# Altium schematic symbol library XFR,Flyback,COILCRAFT_GA3460-BL.SchLib: 1 symbol
Pins are listed as number, name and electrical type; pins without a type are passive.

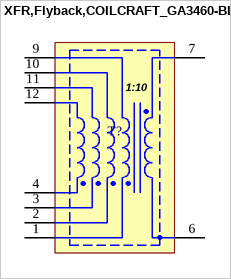
[diagram p0: symbol XFR,Flyback,COILCRAFT_GA3460-BL]

## XFR,Flyback,COILCRAFT_GA3460-BL
designator T?
pins: 1, 2, 3, 4, 6, 7, 9, 10, 11, 12
text: 1:10